# EAGLE library part XR-9050J (library exar)
Data SYNCHRONIZER/RLL ENDEC
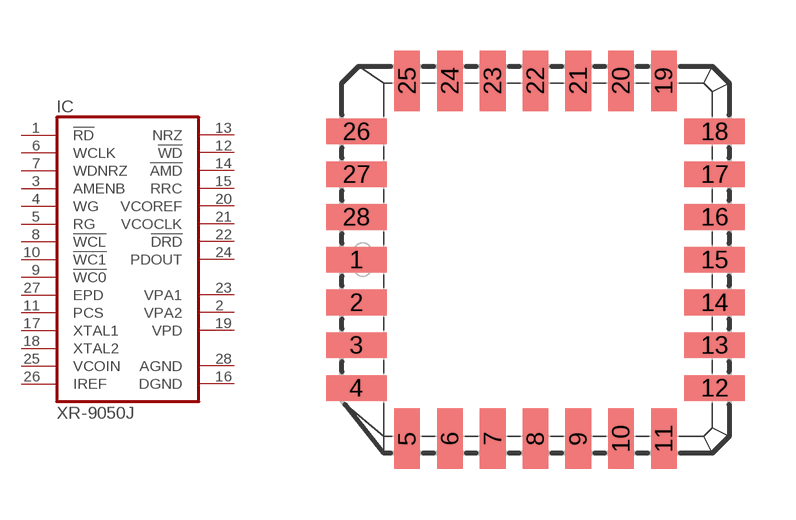
[diagram p56: symbol with the pads of PLCC28; footprint PLCC28]

Designator prefix IC

## XR-9050J (OC_FARNELL: unknown; OC_NEWARK: unknown)  [PLCC28]
1  !RD  in
2  VPA2  pwr
3  AMENB  in
4  WG  in
5  RG  in
6  WCLK  in
7  WDNRZ  in
8  !WCL  in
9  !WC0  in
10  !WC1  in
11  PCS  in
12  !WD  out
13  NRZ
14  !AMD  out
15  RRC  out
16  DGND  pwr
17  XTAL1  in
18  XTAL2  in
19  VPD  pwr
20  VCOREF  out
21  VCOCLK  out
22  !DRD  out
23  VPA1  pwr
24  PDOUT  out
25  VCOIN  in
26  IREF  in
27  EPD  in
28  AGND  pwr

## Footprint PLCC28 (pad centres in mm)
Plastic Leaded Chip Carrier
smd 1.8 x 0.76: 1 -5.32,0; 2 -5.32,-1.27; 3 -5.32,-2.54; 4 -5.32,-3.81; 12 5.32,-3.81; 13 5.32,-2.54; 14 5.32,-1.27; 15 5.32,0; 16 5.32,1.27; 17 5.32,2.54; 18 5.32,3.81; 26 -5.32,3.81; 27 -5.32,2.54; 28 -5.32,1.27
smd 0.76 x 1.8: 5 -3.81,-5.32; 6 -2.54,-5.32; 7 -1.27,-5.32; 8 0,-5.32; 9 1.27,-5.32; 10 2.54,-5.32; 11 3.81,-5.32; 19 3.81,5.32; 20 2.54,5.32; 21 1.27,5.32; 22 0,5.32; 23 -1.27,5.32; 24 -2.54,5.32; 25 -3.81,5.32